# Altium schematic symbol library Programmable Timers and Oscillators.SchLib: 1 symbol
Pins are listed as number, name and electrical type; pins without a type are passive.

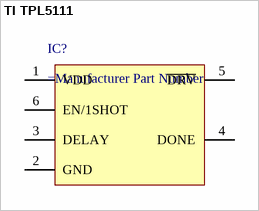
[diagram p0: symbol TI TPL5111]

## TI TPL5111
designator IC?
The TPL5111 Nano Timer is a low-power system timer designed for power gating in duty cycled or battery-powered applications.
footprint TI SOT-23-6 DDC (SOT23, 6-Leads, Body 2.90x2.80mm, Pitch 0.95mm, IPC Medium Density)
pins: 1 VDD, 2 GND, 3 DELAY, 4 DONE, 5 ~{DRV}, 6 EN/1SHOT